# EAGLE library part HRD05003 (library HRD05003)
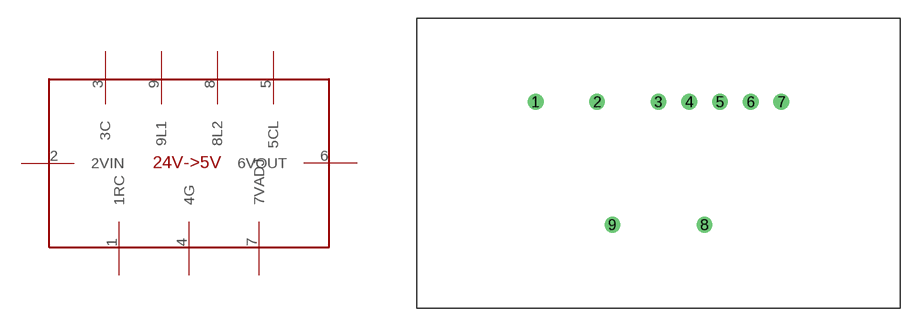
[diagram p0: symbol with the pads of HRD05003; footprint HRD05003]

Designator prefix HRD

## HRD05003  [HRD05003]
1  1RC
2  2VIN
3  3C
4  4G
5  5CL
6  6VOUT
7  7VADJ
8  8L2
9  9L1

## Footprint HRD05003 (pad centres in mm)
drill 0.8: 1 -10.16,5.08; 2 -5.08,5.08; 3 0,5.08; 4 2.54,5.08; 5 5.08,5.08; 6 7.62,5.08; 7 10.16,5.08; 8 3.81,-5.08; 9 -3.81,-5.08